# EAGLE library part MCP2562-SOIC8 (library STM32_CAN-USB)
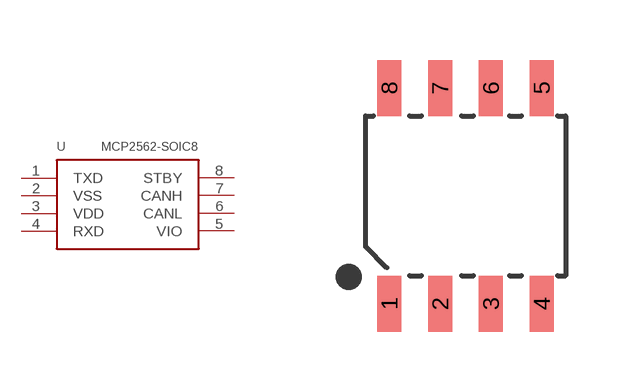
[diagram p6: symbol with the pads of SOIC8-1.27-5X4MM; footprint SOIC8-1.27-5X4MM]

Designator prefix -

## MCP2562-SOIC8  [SOIC8-1.27-5X4MM]
1  TXD  in
2  VSS  pwr
3  VDD  pwr
4  RXD  out
5  VIO  pwr
6  CANL
7  CANH
8  STBY  in

## Footprint SOIC8-1.27-5X4MM (pad centres in mm)
smd 0.6 x 1.4: 1 -1.905,-2.7; 2 -0.635,-2.7; 3 0.635,-2.7; 4 1.905,-2.7; 5 1.905,2.7; 6 0.635,2.7; 7 -0.635,2.7; 8 -1.905,2.7